# Altium schematic symbol library test.SchLib: 11 symbols
Pins are listed as number, name and electrical type; pins without a type are passive.

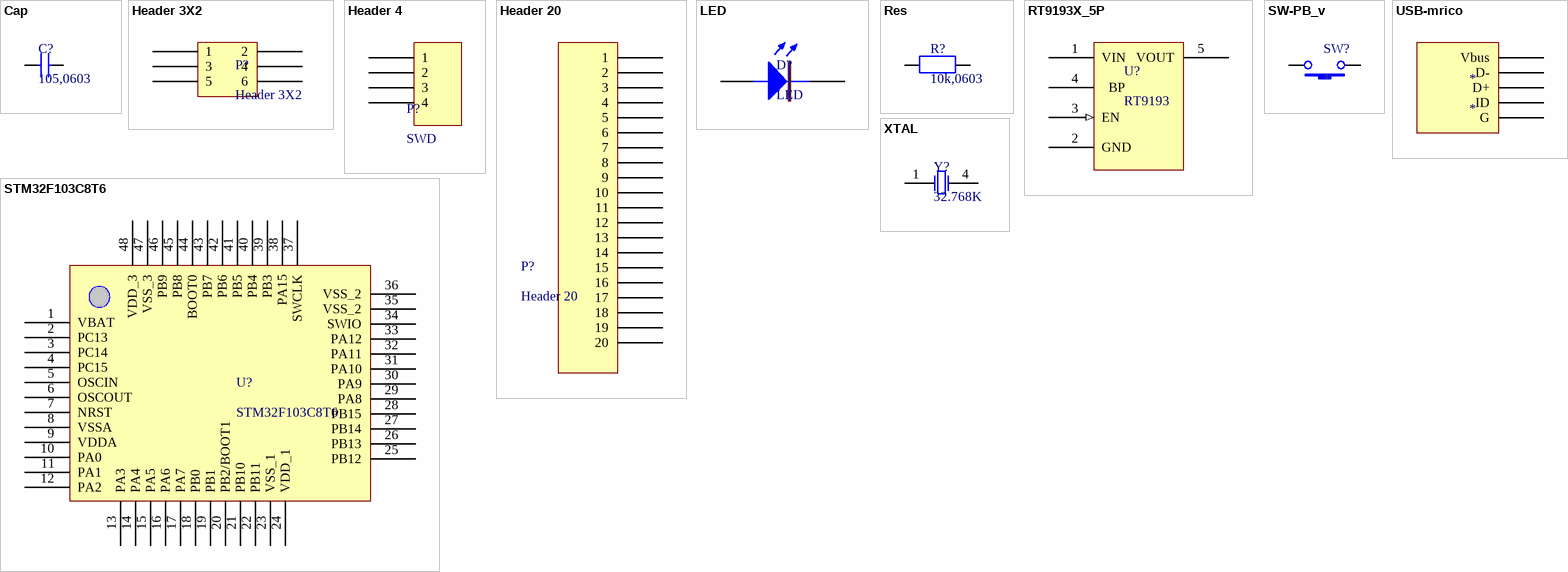
[diagram p0: symbols Cap to XTAL]

## Cap
designator C?, comment 105,0603
Capacitor
pins: 1, 2

## Header 3X2
designator P?
Header,3-pin,Dual row
pins: 1, 2, 3, 4, 5, 6

## Header 4
designator P?, comment SWD
Header,4-pin
pins: 1, 2, 3, 4

## Header 20
designator P?
Header,20-pin
pins: 1, 2, 3, 4, 5, 6, 7, 8, 9, 10, 11, 12, 13, 14, 15, 16, 17, 18, 19, 20

## LED
designator D?
pins: 1, 2

## Res
designator R?, comment 10k,0603
resister
pins: 1, 2

## RT9193X_5P
designator U?, comment RT9193
pins: 1 VIN, 2 GND, 3 EN (in), 4   BP, 5 VOUT

## STM32F103C8T6
designator U?
pins: 1 VBAT, 2 PC13, 3 PC14, 4 PC15, 5 OSCIN, 6 OSCOUT, 7 NRST, 8 VSSA, 9 VDDA, 10 PA0, 11 PA1, 12 PA2, 13 PA3, 14 PA4, 15 PA5, 16 PA6, 17 PA7, 18 PB0, 19 PB1, 20 PB2/BOOT1, 21 PB10, 22 PB11, 23 VSS_1, 24 VDD_1, 25 PB12, 26 PB13, 27 PB14, 28 PB15, 29 PA8, 30 PA9, 31 PA10, 32 PA11, 33 PA12, 34 SWIO, 35 VSS_2, 36 VSS_2, 37 SWCLK, 38 PA15, 39 PB3, 40 PB4, 41 PB5, 42 PB6, 43 PB7, 44 BOOT0, 45 PB8, 46 PB9, 47 VSS_3, 48 VDD_3

## SW-PB_v
designator SW?
SWITCH
pins: 1, 2

## USB-mrico
designator *
pins: 1 Vbus, 2 D-, 3 D+, 4 ID, 5 G

## XTAL
designator Y?, comment 32.768K
Crystal Oscillator
pins: 1, 4